# Altium footprint library botao.PcbLib: 1 footprints
Each footprint in its own frame and in the unit in brackets; x right, y up, seen from the top. Pads: shape width x height; smd on the part's side, far side on the other; paste and mask are expansions set on the pad; w line width, h text height; cw(c..) or ccw(c..) is an arc to the next point about the centre after c.
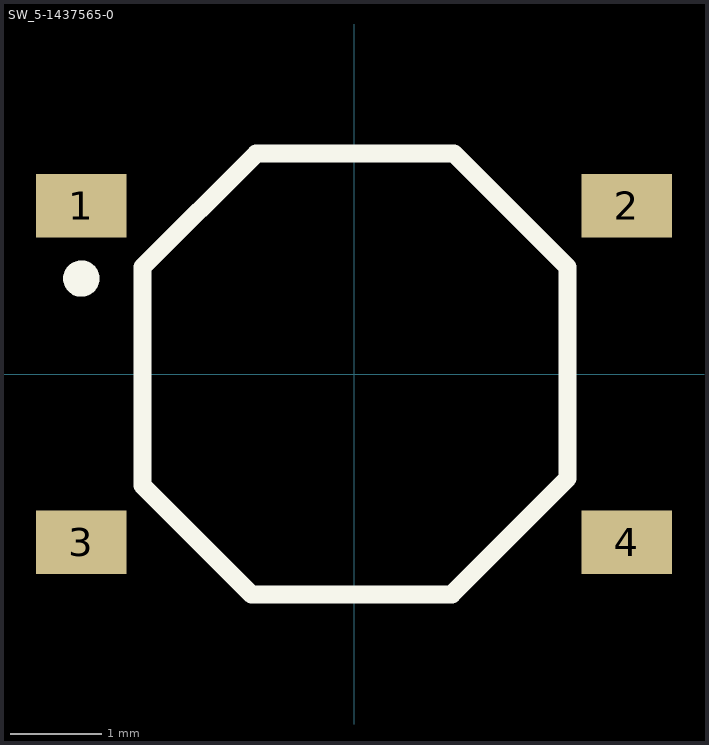
[diagram p0: the footprint, top view; thin cyan lines are the x and y axes]

## SW_5-1437565-0 [mm]
pads (4):
  rect 1x0.7 smd: 1(-3,1.85) 2(3,1.85) 3(-3,-1.85) 4(3,-1.85)
Top Overlay:
  circle w0.2: c-3,1.05 r0.1
  lines w0.2: -2.325,-1.225 -2.325,1.175 -1.075,2.425 1.1,2.425 2.35,1.175 2.35,-1.15 1.075,-2.425 -1.125,-2.425 -2.325,-1.225
3D body "Tactile_SMD_5x5mm.STEP": height 1.52, standoff 0, extent -3.25,-2.54 3.25,2.54